# Altium integrated library Realtek ETH PHY.IntLib: 1 symbol
Pins are listed as number, name and electrical type; pins without a type are passive.

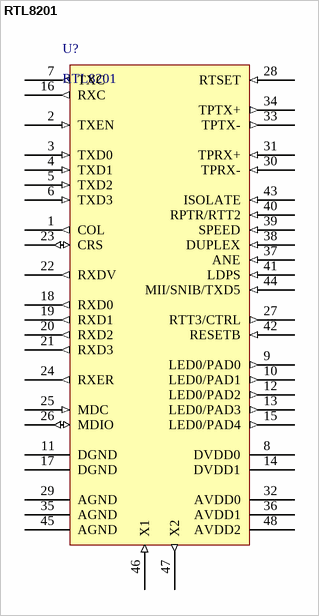
[diagram p0: symbol RTL8201]

## RTL8201
designator U?
footprint LQFP48 SOT313-2
pins: 1 COL (out), 2 TXEN (in), 3 TXD0 (in), 4 TXD1 (in), 5 TXD2 (in), 6 TXD3 (in), 7 TXC (out), 8 DVDD0 (power) "TXD5 (test)", 9 LED0/PAD0 (out) "TXD5 (test)", 10 LED0/PAD1 (out) "TXD5 (test)", 11 DGND (power) "TXD5 (test)", 12 LED0/PAD2 (out) "TXD5 (test)", 13 LED0/PAD3 (out) "TXD5 (test)", 14 DVDD1 (power) "TXD5 (test)", 15 LED0/PAD4 (out) "TXD5 (test)", 16 RXC (out), 17 DGND (power) "TXD5 (test)", 18 RXD0 (out), 19 RXD1 (out), 20 RXD2 (out), 21 RXD3 (out), 22 RXDV (out), 23 CRS (io), 24 RXER (out), 25 MDC (in), 26 MDIO (io), 27 RTT3/CTRL (out) "TXD5 (test)", 28 RTSET (in), 29 AGND (power) "TXD5 (test)", 30 TPRX- (in), 31 TPRX+ (in), 32 AVDD0 (power) "TXD5 (test)", 33 TPTX- (out), 34 TPTX+ (out), 35 AGND (power) "TXD5 (test)", 36 AVDD1 (power) "TXD5 (test)", 37 ANE (in), 38 DUPLEX (in), 39 SPEED (in), 40 RPTR/RTT2 (in), 41 LDPS (in), 42 RESETB (in) "TXD5 (test)", 43 ISOLATE (in), 44 MII/SNIB/TXD5 (in) "TXD5 (test)", 45 AGND (power) "TXD5 (test)", 46 X1 (in), 47 X2 (out), 48 AVDD2 (power) "TXD5 (test)"